# Altium footprint library 544УД2А.PcbLib: 1 footprints
Each footprint in its own frame and in the unit in brackets; x right, y up, seen from the top. Pads: shape width x height; smd on the part's side, far side on the other; paste and mask are expansions set on the pad; w line width, h text height; cw(c..) or ccw(c..) is an arc to the next point about the centre after c.
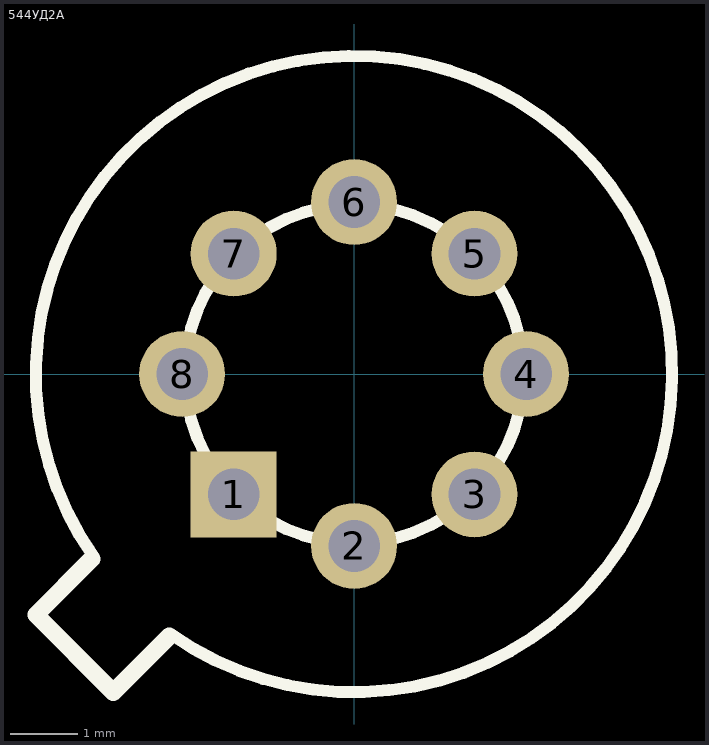
[diagram p0: the footprint, top view; thin cyan lines are the x and y axes]

## 544УД2А [mil]
pads (8):
  rect 50x50 hole 30: 1(-70,-70)
  round 50 hole 30: 2(0,-100) 3(70,-70) 4(100,0) 5(70,70) 6(0,100) 7(-70,70) 8(-100,0)
Top Overlay:
  circle w7: c0,0 r98.43
  lines w7: -151.61,-106.11 cw(c-0.06,0) -106.17,-151.54
  lines w10: -152.5,-107.5 -185,-140 -140,-185 -107.5,-152.5
3D body: height 20, standoff 0, extent -185,-185 183.54,184.27
3D body: height 189, standoff 20, extent -170,-170 168.66,169.33